# Altium footprint library KitArmM0.PcbLib: 27 footprints (part 1 of 2)
Each footprint in its own frame and in the unit in brackets; x right, y up, seen from the top. Pads: shape width x height; smd on the part's side, far side on the other; paste and mask are expansions set on the pad; w line width, h text height; cw(c..) or ccw(c..) is an arc to the next point about the centre after c.
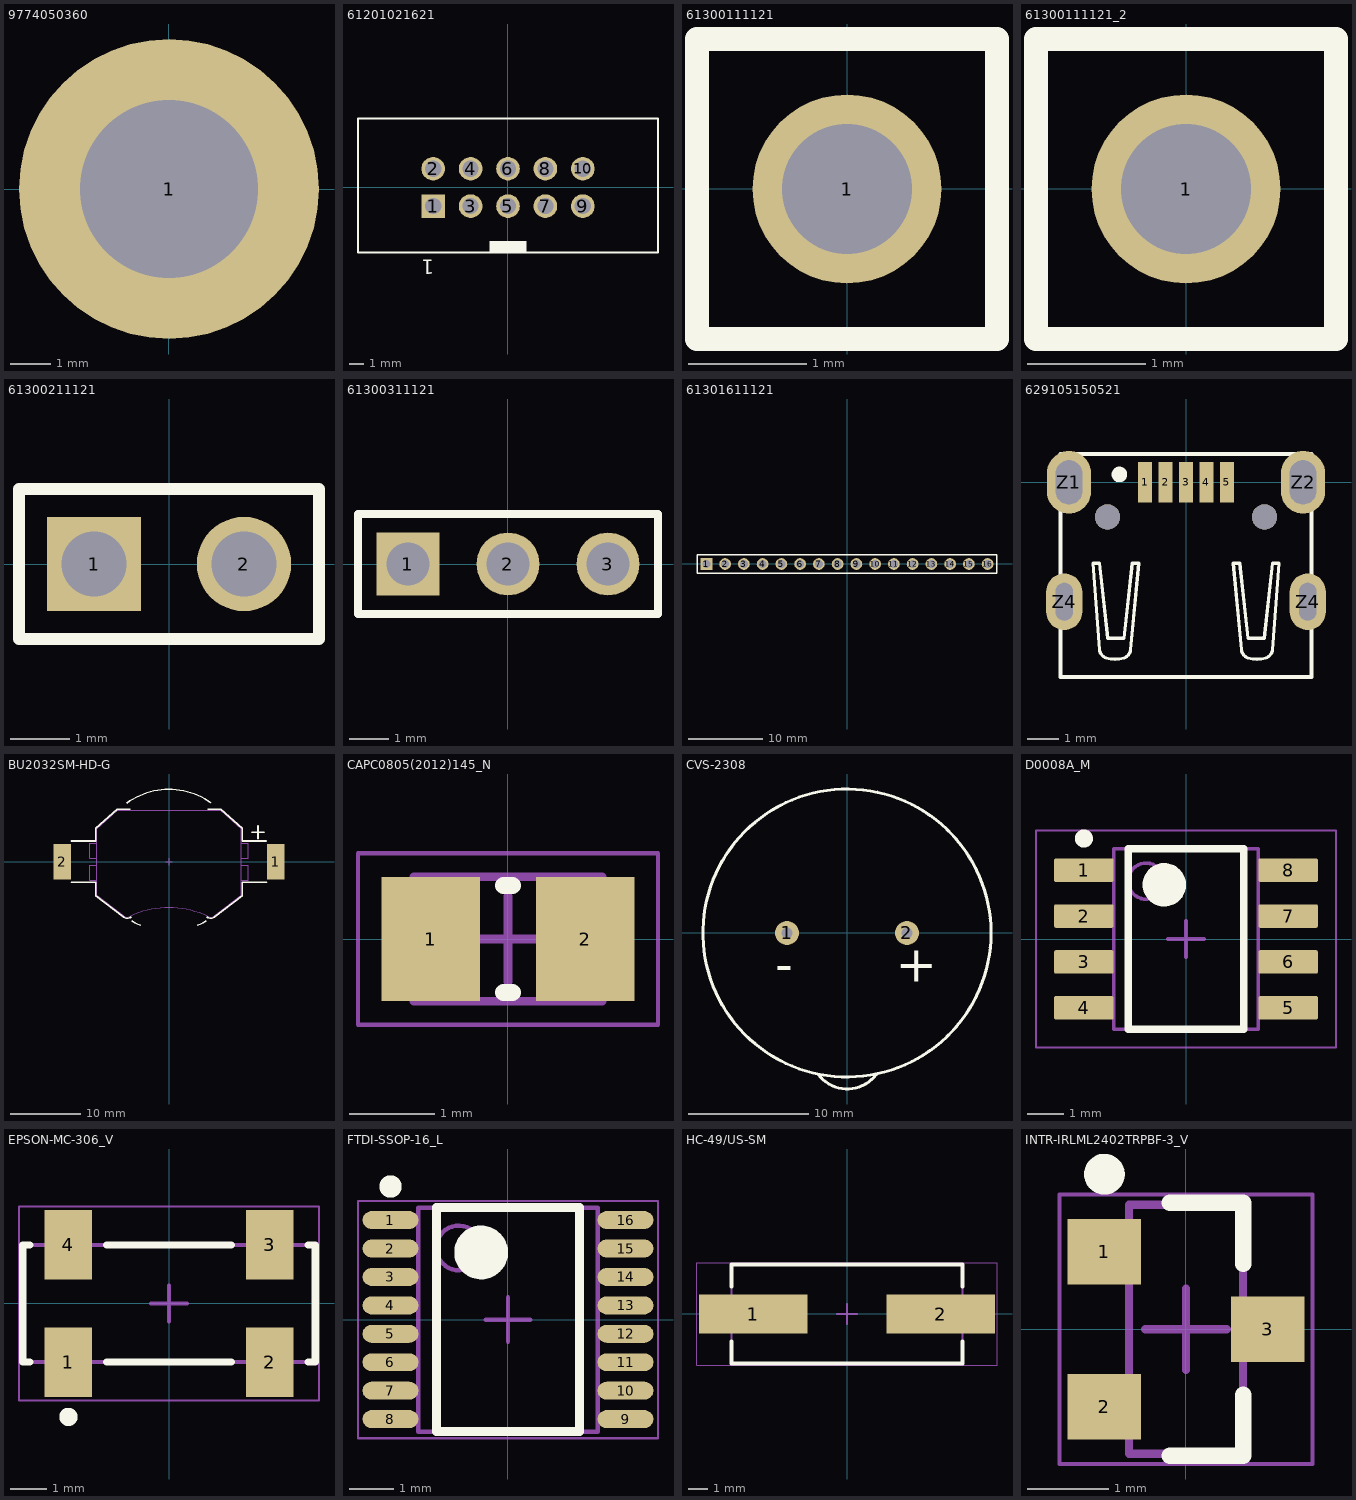
[diagram p0: the footprints below, top view; thin cyan lines are the x and y axes]

## 9774050360 [mm] "M3 Thread Internal, Length 5mm"
height 5
pads (1):
  round 7.4 / inner round 0 / far side round 0 hole 4.4 unplated paste-403.566: 1(0,0)
Top Paste:
  region: 0.25,3.641 0.25,2.236 0.437,2.207 0.801,2.102 1.143,1.938 1.452,1.719 1.719,1.451 1.938,1.142 2.103,0.801 2.207,0.437 2.236,0.25 3.641,0.25 3.626,0.468 3.545,0.897 3.413,1.313 3.232,1.71 3.005,2.083 2.735,2.426 2.427,2.735 2.083,3.005 1.71,3.232 1.313,3.413 0.897,3.545 0.468,3.626
  region: 3.641,-0.25 2.236,-0.25 2.207,-0.437 2.102,-0.801 1.938,-1.143 1.719,-1.452 1.451,-1.719 1.142,-1.938 0.801,-2.103 0.437,-2.207 0.25,-2.236 0.25,-3.641 0.468,-3.626 0.897,-3.545 1.313,-3.413 1.71,-3.232 2.083,-3.005 2.427,-2.735 2.735,-2.427 3.005,-2.083 3.232,-1.71 3.413,-1.313 3.545,-0.897 3.626,-0.468
  region: -0.25,-3.641 -0.25,-2.236 -0.437,-2.207 -0.801,-2.102 -1.143,-1.938 -1.452,-1.719 -1.719,-1.451 -1.938,-1.142 -2.103,-0.801 -2.207,-0.437 -2.236,-0.25 -3.641,-0.25 -3.626,-0.468 -3.545,-0.897 -3.413,-1.313 -3.232,-1.71 -3.005,-2.083 -2.735,-2.427 -2.427,-2.735 -2.083,-3.005 -1.71,-3.232 -1.313,-3.413 -0.897,-3.545 -0.468,-3.626
  region: -3.641,0.25 -2.236,0.25 -2.207,0.437 -2.102,0.801 -1.938,1.143 -1.719,1.452 -1.451,1.719 -1.142,1.938 -0.801,2.103 -0.437,2.207 -0.25,2.236 -0.25,3.641 -0.468,3.626 -0.897,3.545 -1.313,3.413 -1.71,3.232 -2.083,3.005 -2.426,2.735 -2.735,2.427 -3.005,2.083 -3.232,1.71 -3.413,1.313 -3.545,0.897 -3.626,0.468
Mechanical 13:
  circle w0.15: c0,0 r3
3D body "9774050360.stp": height 5.01, standoff -1.39, extent -3,-3 3,3

## 61201021621 [mm] "10 pins, straight, gold plating"
height 9.1
pads (10):
  rect 1.6x1.6 hole 1.1: 1(-5.08,-1.27)
  round 1.6 hole 1.1: 2(-5.08,1.27) 3(-2.54,-1.27) 4(-2.54,1.27) 5(0,-1.27) 6(0,1.27) 7(2.54,-1.27) 8(2.54,1.27) 9(5.08,-1.27) 10(5.08,1.27)
Top Overlay:
  rectangle: -1.27,-4.425 1.27,-3.64
  lines w0.127: -10.18,4.55 -10.18,-4.425 ; 10.18,4.55 10.18,-4.425 ; -10.18,-4.425 -10.18,4.675 ; -10.18,-4.425 10.18,-4.425 ; -10.18,-4.425 10.18,-4.425 ; -10.18,4.675 10.18,4.675 ; -10.18,4.675 10.18,4.675 ; 10.18,-4.425 10.18,4.675
  text "1" at -5,-4.895 h1
3D body "61201021621.stp": height 9.13, standoff -2.98, extent -10.18,-4.425 10.18,4.75

## 61300111121 [mm] "1pins, 1 row, straight, gold plating"
height 8.54
pads (1):
  round 1.6 hole 1.1: 1(0,0)
Top Overlay:
  lines w0.2: -1.27,-1.27 1.27,-1.27 1.27,1.27 -1.27,1.27 -1.27,-1.27
3D body "61300111121.stp": height 8.57, standoff -2.97, extent -1.27,-1.27 1.27,1.27

## 61300111121_2 [mm]
pads (1):
  round 1.6 hole 1.1: 1(0,0)
Top Overlay:
  lines w0.2: -1.27,-1.27 -1.27,1.27 1.27,1.27 1.27,-1.27 -1.27,-1.27
3D body "61300111121.stp": height 8.57, standoff -2.97, extent -1.27,-1.27 1.27,1.27

## 61300211121 [mm] "2 pins, 1 row, straight, gold plating"
height 8.54
pads (2):
  rect 1.6x1.6 hole 1.1: 1(-1.27,0)
  round 1.6 hole 1.1: 2(1.27,0)
Top Overlay:
  lines w0.2: -2.54,-1.27 -2.54,1.27 2.54,1.27 2.54,-1.27 -2.54,-1.27
3D body "61300211121.stp": height 8.57, standoff -2.97, extent -2.54,-1.27 2.54,1.27

## 61300311121 [mm] "3 pins, 1 row, straight, gold plating"
height 8.54
pads (3):
  rect 1.6x1.6 hole 1.1: 1(-2.54,0)
  round 1.6 hole 1.1: 2(0,0) 3(2.54,0)
Top Overlay:
  lines w0.2: -3.81,-1.27 -3.81,1.27 3.81,1.27 3.81,-1.27 -3.81,-1.27
3D body "61300311121.stp": height 8.57, standoff -2.97, extent -3.81,-1.27 3.81,1.27

## 61301611121 [mm] "16  pins, 1 row, straight, gold plating"
height 8.54
pads (16):
  rect 1.6x1.6 hole 1.1: 1(-19.05,0)
  round 1.6 hole 1.1: 2(-16.51,0) 3(-13.97,0) 4(-11.43,0) 5(-8.89,0) 6(-6.35,0) 7(-3.81,0) 8(-1.27,0) 9(1.27,0) 10(3.81,0) 11(6.35,0) 12(8.89,0) 13(11.43,0) 14(13.97,0) 15(16.51,0) 16(19.05,0)
Top Overlay:
  lines w0.2: -20.32,-1.27 20.32,-1.27 20.32,1.27 -20.32,1.27 -20.32,-1.27
3D body "61301611121.stp": height 8.57, standoff -2.97, extent -20.32,-1.27 20.32,1.27

## 629105150521 [mm] "WR-COM_USB_Micro Type B_Horizontal_SMT Micro Type B Horizontal SMT - 3A current at Pin1 & Pin 5 - with Pegs and THT shielding Pins  - T&R Packaging"
height 2.6
pads (11):
  rect 0.45x1.3 smd: 1(-1.3,0) 2(-0.65,0) 3(0,0) 4(0.65,0) 5(1.3,0)
  oval 1.4x2 hole 0.85 slot 1.4 at 90 deg: Z1(-3.725,0) Z2(3.725,0)
  oval 1.15x1.8 hole 0.55 slot 1.2 at 90 deg: Z4(-3.875,-3.8) Z4(3.875,-3.8)
  round 0.8 hole 0.8 unplated: ""(-2.5,-1.1) ""(2.5,-1.1)
Top Overlay:
  circle w0.254: c-2.12,0.25 r0.12
  lines w0.102: -2.751,-5.328 -2.959,-2.577 -2.751,-2.577 -2.492,-4.965 -1.973,-4.965 -1.713,-2.577 -1.505,-2.577 -1.765,-5.328 ; -2.751,-5.328 ccw(c-2.457,-5.306) -2.544,-5.588 ccw(c-2.258,-4.657) -1.973,-5.588 ccw(c-2.059,-5.306) -1.765,-5.328 ; 1.765,-5.328 1.505,-2.577 1.713,-2.577 1.973,-4.965 2.492,-4.965 2.751,-2.577 2.959,-2.577 2.751,-5.328 ; 1.765,-5.328 ccw(c2.059,-5.306) 1.973,-5.588 ccw(c2.258,-4.657) 2.544,-5.588 ccw(c2.457,-5.306) 2.751,-5.328
  lines w0.127: -4,-6.2 -4,0.9 4,0.9 4,-6.2 -4,-6.2
3D body "629105150521.stp": height 2.67, standoff -0.89, extent -4.001,-6.25 3.999,0.353

## BU2032SM-HD-G [mm] "CR2032 BATTERY HOLDER"
height 4.3
pads (2):
  rect 2.54x5.08 smd: 1(15.24,0) 2(-15.24,0)
Top Overlay:
  lines w0.2: -10.466,-2.94 -10.466,-4.853 -6.545,-7.854 ; -10.466,2.94 -10.466,4.785 -7.425,7.475 -5.515,7.476 ; -6.545,-7.854 ccw(c-5.97,-7.277) -5.561,-7.982 cw(c0.254,-19.539) -5.394,-7.899 ; -6.041,8.364 cw(c0,0.19) 5.977,8.411 ; -5.313,-8.454 ccw(c0,0.215) -4.054,-9.109 ; 4.054,-9.109 ccw(c0,0.215) 5.313,-8.454 ; 5.394,-7.899 cw(c-0.254,-19.539) 5.561,-7.982 ccw(c5.97,-7.277) 6.545,-7.854 ; 5.515,7.476 7.425,7.475 10.466,4.785 10.466,2.94 ; 6.545,-7.854 10.466,-4.853 ; 10.466,-4.852 10.466,-2.94
  lines w0.254: -13.951,-2.94 -10.466,-2.94 ; -13.951,2.94 -10.466,2.94 ; 10.466,-2.94 13.951,-2.94 ; 10.466,2.94 13.862,2.94 ; 11.811,4.191 13.589,4.191 ; 12.7,3.302 12.7,5.08
Mechanical 13:
  lines w0.1: -10.326,-2.625 -11.316,-2.625 -11.316,-0.525 -10.316,-0.525 ; -10.316,0.525 -11.316,0.525 -11.316,2.625 -10.316,2.625 ; -6.038,-8.055 cw(c-0.031,-19.513) 6.013,-8.074 ; -6.037,-8.056 -10.316,-4.775 -10.316,4.725 -7.366,7.325 7.366,7.325 10.316,4.725 10.316,-4.775 6.013,-8.075 ; 10.316,-0.525 11.316,-0.525 11.316,-2.625 10.326,-2.625 ; 10.316,0.525 11.316,0.525 11.316,2.625 10.316,2.625
Mechanical 15:
  lines w0.1: -0.5,0 0.5,0 ; 0,-0.5 0,0.5
3D body: height 4, standoff 0, extent -10.148,-9.872 10.148,10.383
3D body: height 4.3, standoff 0, extent -10.317,-8.075 10.317,7.326

## CAPC0805(2012)145_N [mm] "Chip Capacitor, Body 2.0x1.2mm, Height 1.45mm, IPC Medium Density"
height 1.45
pads (2):
  rect 1.15x1.45 smd: 1(-0.9,0) 2(0.9,0)
Top Overlay:
  lines w0.2: -0.05,-0.625 0.05,-0.625 ; -0.05,0.625 0.05,0.625
Mechanical 13:
  lines w0.1: -1.1,-0.725 1.1,-0.725 1.1,0.725 -1.1,0.725 -1.1,-0.725
Mechanical 15:
  lines w0.05: -1.75,-1 1.75,-1 1.75,1 -1.75,1 -1.75,-1
  lines w0.1: -0.5,0 0.5,0 ; 0,-0.5 0,0.5
3D body: height 1.45, standoff 0, extent -0.6,-0.725 0.6,0.725
3D body: height 1.45, standoff 0, extent 0.6,-0.725 1.1,0.725
3D body: height 1.45, standoff 0, extent -1.1,-0.725 -0.6,0.725

## CVS-2308 [mm] "Loudspeaker THT CVS-2308"
height 8.54
pads (2):
  round 2 hole 0.9: 1(-5,0) 2(5,0)
Top Overlay:
  circle w0.254: c0,0 r12
  lines w0.254: -2.386,-11.791 ccw(c0.021,-10) 2.413,-11.811
  text "+" at 4.064,-4.064 h3
  text "-" at -5.969,-4.064 h3
3D body "cvs-2308.stp": height 8.5, standoff -6.4, extent -11.5,-12.5 11.5,11.5

## D0008A_M [mm] "SOIC, 8-Leads, Body 5x4mm, Pitch 1.27mm, IPC Low Density"
height 1.75
pads (8):
  rrect15% 1.65x0.65 smd: 1(-2.825,1.905) 2(-2.825,0.635) 3(-2.825,-0.635) 4(-2.825,-1.905) 5(2.825,-1.905) 6(2.825,-0.635) 7(2.825,0.635) 8(2.825,1.905)
Top Overlay:
  circle w0.25: c-2.825,2.78 r0.125
  circle w0.6: c-0.6,1.5 r0.3
  lines w0.2: -1.6,-2.5 -1.6,2.5 1.6,2.5 1.6,-2.5 -1.6,-2.5
Mechanical 13:
  circle w0.1: c-1.1,1.6 r0.5
  lines w0.1: -2,-2.5 -2,2.5 2,2.5 2,-2.5 -2,-2.5
Mechanical 15:
  lines w0.05: -4.15,-3 -4.15,3 4.15,3 4.15,-3 -4.15,-3
  lines w0.1: -0.5,0 0.5,0 ; 0,-0.5 0,0.5
3D body "SOIC-8akaD0008AakaM08A.stp": height 1.63, standoff 0, extent -3,-2.45 3,2.45

## EPSON-MC-306_V [mm] "SMD, 4-Leads, Body 8x3.2mm"
height 2.54
pads (4):
  rect 1.3x1.9 smd: 1(-2.75,-1.6) 2(2.75,-1.6) 3(2.75,1.6) 4(-2.75,1.6)
Top Overlay:
  circle w0.25: c-2.75,-3.1 r0.125
  lines w0.2: -3.8,-1.6 -4,-1.6 -4,1.6 -3.8,1.6 ; -1.7,-1.6 1.7,-1.6 ; -1.7,1.6 1.7,1.6 ; 3.8,-1.6 4,-1.6 4,1.6 3.8,1.6
Mechanical 13:
  lines w0.1: -4,-1.6 4,-1.6 4,1.6 -4,1.6 -4,-1.6
Mechanical 15:
  lines w0.05: -4.1,-2.65 4.1,-2.65 4.1,2.65 -4.1,2.65 -4.1,-2.65
  lines w0.1: -0.5,0 0.5,0 ; 0,-0.5 0,0.5
3D body: height 2.54, standoff 0.16, extent -4,-1.6 4,1.6

## FTDI-SSOP-16_L [mm] "SOP, 16-Leads, Body 5x4mm, Pitch 0.635mm, IPC High Density"
height 1.76
pads (16):
  oval 1.25x0.4 smd: 1(-2.625,2.222) 2(-2.625,1.587) 3(-2.625,0.952) 4(-2.625,0.317) 5(-2.625,-0.318) 6(-2.625,-0.953) 7(-2.625,-1.588) 8(-2.625,-2.223) 9(2.625,-2.223) 10(2.625,-1.588) 11(2.625,-0.953) 12(2.625,-0.318) 13(2.625,0.317) 14(2.625,0.952) 15(2.625,1.587) 16(2.625,2.222)
Top Overlay:
  circle w0.6: c-0.6,1.5 r0.3
  circle w0.25: c-2.625,2.973 r0.125
  lines w0.2: -1.6,-2.5 1.6,-2.5 1.6,2.5 -1.6,2.5 -1.6,-2.5
Mechanical 13:
  circle w0.1: c-1.1,1.6 r0.5
  lines w0.1: -2,-2.5 2,-2.5 2,2.5 -2,2.5 -2,-2.5
Mechanical 15:
  lines w0.05: -3.35,-2.65 3.35,-2.65 3.35,2.65 -3.35,2.65 -3.35,-2.65
  lines w0.1: -0.5,0 0.5,0 ; 0,-0.5 0,0.5
3D body: height 1.76, standoff 0.1, extent -2,-2.5 2,2.5

## HC-49/US-SM [mm] "SMD, 2-Leads, Body 5x11.7mm"
height 4.5
pads (2):
  rect 5.5x2 smd: 1(-4.75,0) 2(4.75,0)
Top Overlay:
  lines w0.2: -5.85,-1.4 -5.85,-2.5 5.85,-2.5 5.85,-1.4 ; -5.85,1.4 -5.85,2.5 5.85,2.5 5.85,1.4
Mechanical 13:
  lines w0.1: -5.85,-2.5 5.85,-2.5 5.85,2.5 -5.85,2.5 -5.85,-2.5
Mechanical 15:
  lines w0.05: -7.6,-2.6 7.6,-2.6 7.6,2.6 -7.6,2.6 -7.6,-2.6
  lines w0.1: -0.5,0 0.5,0 ; 0,-0.5 0,0.5
3D body "User Library-HC-49S.STEP": height 4.34, standoff -0.01, extent -6.15,-2.35 6.15,2.35

## INTR-IRLML2402TRPBF-3_V [mm] "SOT23, 3-Leads, Body 3.05x1.4mm, Pitch 0.95mm"
height 1.11
pads (3):
  rect 0.9x0.8 smd: 1(-1,0.95) 2(-1,-0.95) 3(1,0)
Top Overlay:
  circle w0.25: c-1,1.9 r0.125
  lines w0.2: -0.2,-1.55 0.7,-1.55 0.7,-0.8 ; -0.2,1.55 0.7,1.55 0.7,0.8
Mechanical 13:
  lines w0.1: -0.7,-1.525 0.7,-1.525 0.7,1.525 -0.7,1.525 -0.7,-1.525
Mechanical 15:
  lines w0.05: -1.55,-1.65 1.55,-1.65 1.55,1.65 -1.55,1.65 -1.55,-1.65
  lines w0.1: -0.5,0 0.5,0 ; 0,-0.5 0,0.5
3D body: height 1.11, standoff 0.02, extent -0.7,-1.525 0.7,1.525